# EAGLE library part MP2155 (library IC & Transistor)
Single Inductor Buck-Boost Converter with Adjustable Output
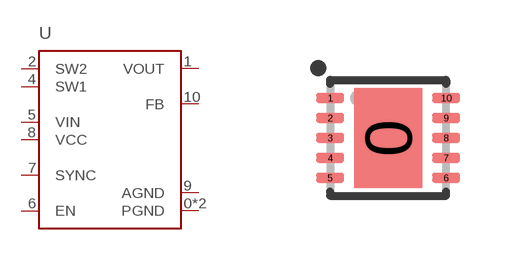
[diagram p80: symbol with the pads of QFN-10; footprint QFN-10]

Designator prefix U

## MP2155 (CYTRON-PC: S-IC-MP2155-QFN10; DESC: Single Inductor Buck-Boost Converter Adjustable Output; MF: Monolithic Power Systems; MPN: MP2155)  [QFN-10]
0  PGND
1  VOUT
2  SW2
3  PGND
4  SW1
5  VIN
6  EN
7  SYNC
8  VCC
9  AGND
10  FB

## Footprint QFN-10 (pad centres in mm)
smd 1.7 x 2.5: 0 0,0
smd 0.7 x 0.25: 1 -1.45,1; 2 -1.45,0.5; 3 -1.45,0; 4 -1.45,-0.5; 5 -1.45,-1; 6 1.45,-1; 7 1.45,-0.5; 8 1.45,0; 9 1.45,0.5; 10 1.45,1